# Altium integrated library Analog Devices Data Converters Analog-to-Digital Converters.IntLib: 2404 symbols (part 328 of 346)
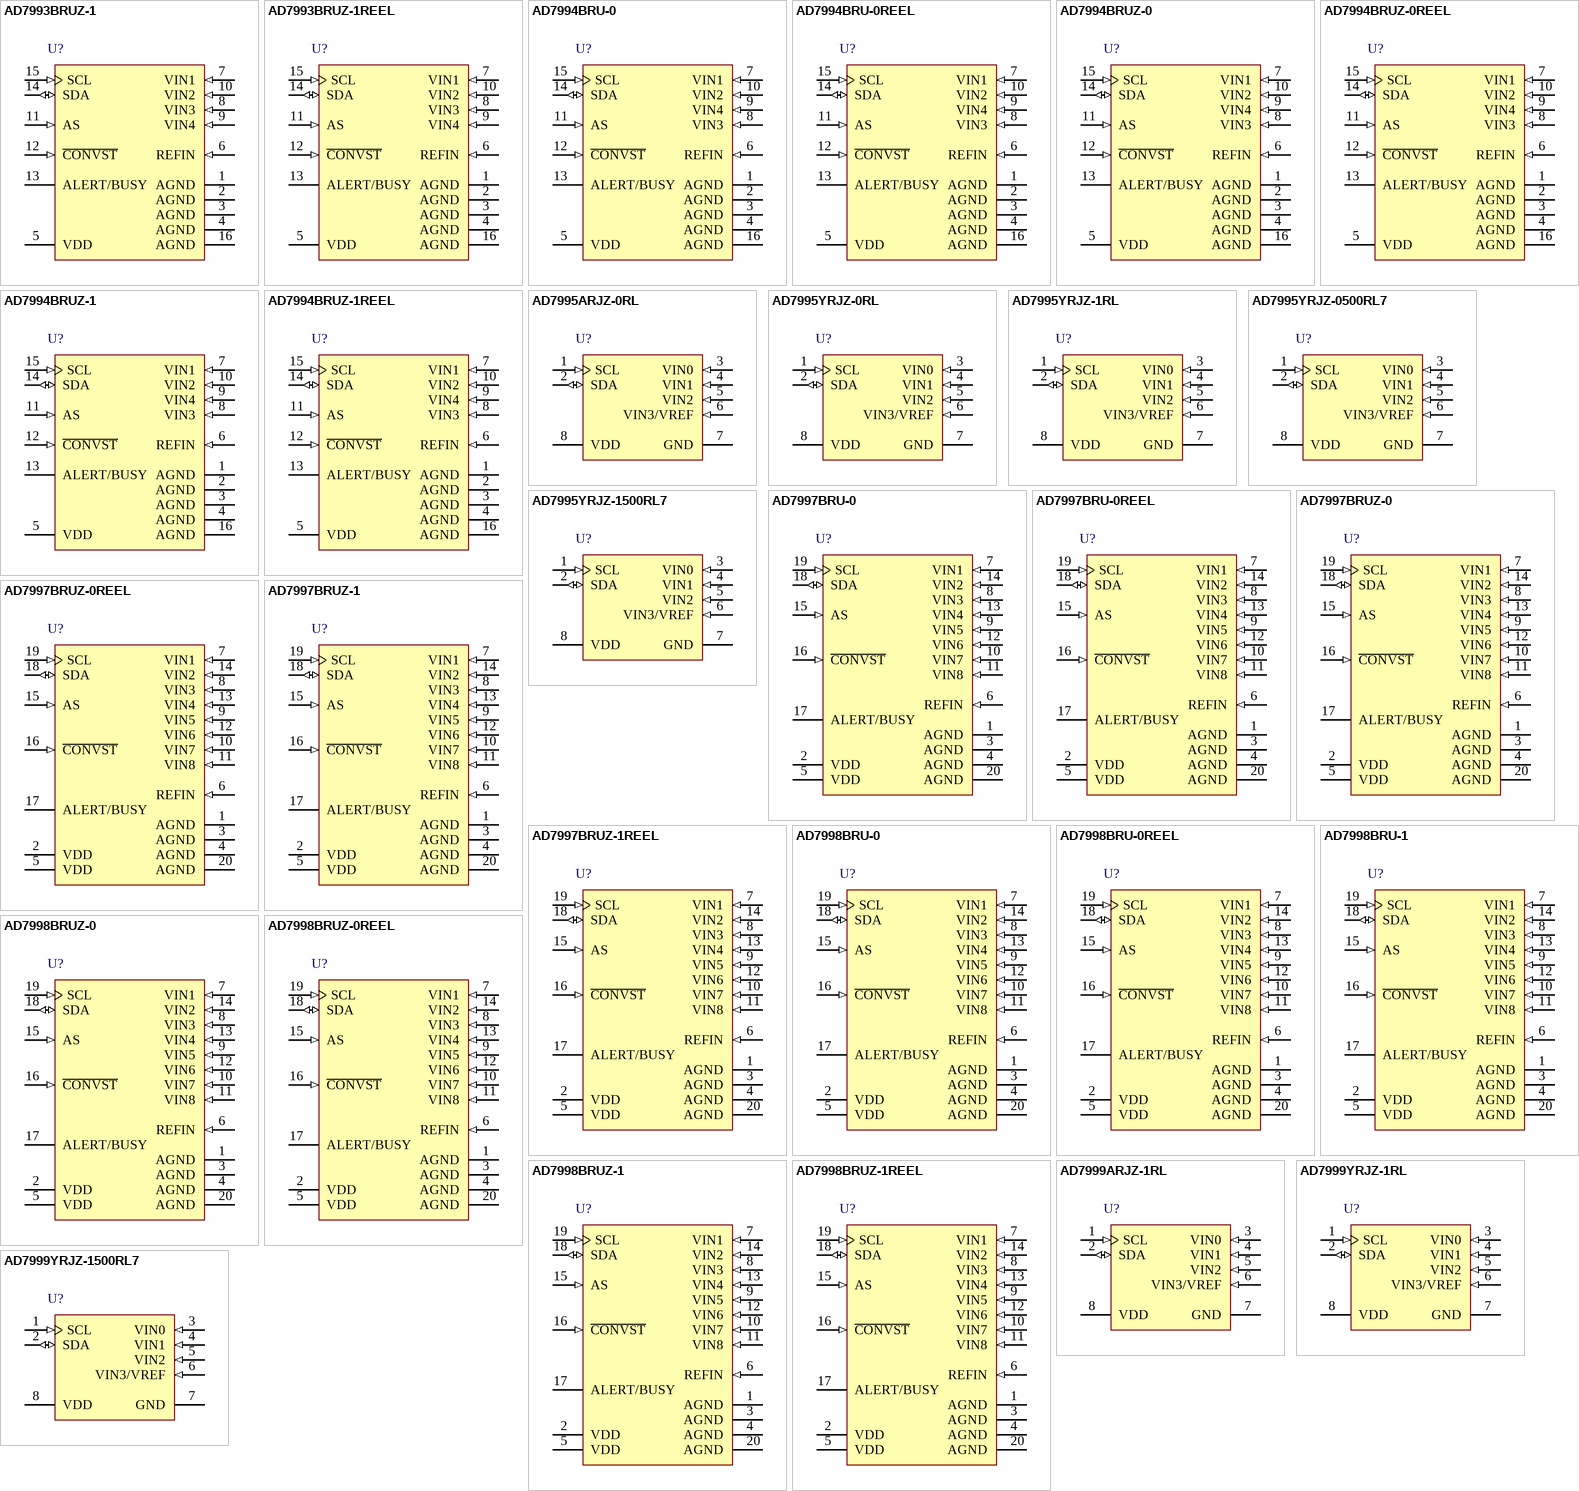
[diagram p430: symbols AD7993BRUZ-1 to AD7999YRJZ-1500RL7]

## AD7997BRU-0
designator U?
Octal 10-Bit Analog-to-Digital Converter with I2C / Serial 2-Wire, Serial Interface, 79KSPS, -40 to +85 degC, RU-20, Tube; Generic Part Number: AD7997; Manufacturer: Analog Devices; PartNumber: AD7997BRU-0; Resolution (Bits): 10; Channels: 8; Throughput Rate (SPS): 79K; Interface: I2C/Ser 2-Wire, Ser; DatasheetVersion: Rev.0; PackageVersion: 2000; PackageReference: RU-20; PackageDescription: 20-Lead Thin Shrink Small Outline Package [TSSOP]; Supplier 1: Digi-Key; Supplier Part Number 1: AD7997BRU-0-ND; Supplier 2: Newark; Supplier Part Number 2: 59K6113; Supplier 3: Mouser; Supplier Part Number 3: 584-AD7997BRU-0; RoHS: N; Packing: Tube; Mounting Technology: Surface Mount; Code_JEDEC: MO-153AC; ComponentLink1Description: Manufacturer URL; ComponentLink1URL: http://www.analog.com/en/index.html; ComponentLink2Description: Datasheet; ComponentLink2URL: http://www.analog.com/static/imported-files/data_sheets/AD7997_7998.pdf; ComponentLink3Description: Package Specification; ComponentLink3URL: http://www.analog.com/static/imported-files/packages/364515793657813558433715854054607941441RU20.pdf; ComponentLink4Description: Product URL; ComponentLink4URL: http://www.analog.com/en/analog-to-digital-converters/ad-converters/ad7997/products/product.html
footprint RU-20_N (TSOP, 20-Leads, Body 6.5x4.4mm, Pitch 0.65mm, IPC Medium Density)
footprint RU-20_L (TSOP, 20-Leads, Body 6.5x4.4mm, Pitch 0.65mm, IPC High Density)
footprint RU-20_M (TSOP, 20-Leads, Body 6.5x4.4mm, Pitch 0.65mm, IPC Low Density)
pins: 1 AGND (power) "Analog Ground. Ground reference point for all circuitry on the AD7997/AD7998. All analog input signals should be referred to this AGND voltage.", 2 VDD (power) "Power Supply Input. The VDD range for the AD7997/AD7998 is from 2.7 V to 5.5 V.", 3 AGND (power) "Analog Ground. Ground reference point for all circuitry on the AD7997/AD7998. All analog input signals should be referred to this AGND voltage.", 4 AGND (power) "Analog Ground. Ground reference point for all circuitry on the AD7997/AD7998. All analog input signals should be referred to this AGND voltage.", 5 VDD (power) "Power Supply Input. The VDD range for the AD7997/AD7998 is from 2.7 V to 5.5 V.", 6 REFIN (in) "Voltage Reference Input. The external reference for the AD7997/AD7998 should be applied to this input pin. The voltage range for the external reference is 1.2 V to VDD. A 0.1 uF and 1 uF capacitors should be placed between (See Datasheet)", 7 VIN1 (in) "Analog Input 1. Single-ended analog input channel. The input range is 0 V to REFIN.", 8 VIN3 (in) "Analog Input 3. Single-ended analog input channel. The input range is 0 V to REFIN.", 9 VIN5 (in) "Analog Input 5. Single-ended analog input channel. The input range is 0 V to REFIN.", 10 VIN7 (in) "Analog Input 7. Single-ended analog input channel. The input range is 0 V to REFIN.", 11 VIN8 (in) "Analog Input 8. Single-ended analog input channel. The input range is 0 V to REFIN.", 12 VIN6 (in) "Analog Input 6. Single-ended analog input channel. The input range is 0 V to REFIN.", 13 VIN4 (in) "Analog Input 4. Single-ended analog input channel. The input range is 0 V to REFIN.", 14 VIN2 (in) "Analog Input 2. Single-ended analog input channel. The input range is 0 V to REFIN.", 15 AS (in) "Logic Input. Address select input that selects one of three I2C addresses for the AD7997/AD7998, as shown in Table 6. The device address depends on the voltage applied to this pin.", 16 ~{CONVST} (in) "Logic Input Signal. Convert start signal. This is an edge-triggered logic input. The rising edge of this signal powers up the part. The power-up time for the part is 1 us. The falling edge of C\O\N\V\S\T\ places the (See Datasheet)", 17 ALERT/BUSY (oc) "Digital Output. Selectable as an ALERT or BUSY output function. When configured as an ALERT, this pin acts as an out-of-range indicator and, if enabled, becomes active when the conversion result violates the DATAHIGH or (See Datasheet)", 18 SDA (io) "Digital I/O. Serial bus bidirectional data. Open-drain output. External pull-up resistor required.", 19 SCL (in) "Digital Input. Serial bus clock. Open-drain input. External pull-up resistor required.", 20 AGND (power) "Analog Ground. Ground reference point for all circuitry on the AD7997/AD7998. All analog input signals should be referred to this AGND voltage."

## AD7997BRU-0REEL
designator U?
Octal 10-Bit Analog-to-Digital Converter with I2C / Serial 2-Wire, Serial Interface, 79KSPS, -40 to +85 degC, RU-20, Reel; Generic Part Number: AD7997; Manufacturer: Analog Devices; PartNumber: AD7997BRU-0REEL; Resolution (Bits): 10; Channels: 8; Throughput Rate (SPS): 79K; Interface: I2C/Ser 2-Wire, Ser; DatasheetVersion: Rev.0; PackageVersion: 2000; PackageReference: RU-20; PackageDescription: 20-Lead Thin Shrink Small Outline Package [TSSOP]; Supplier 1: Digi-Key; Supplier Part Number 1: AD7997BRU-0REEL-ND; Supplier 2: Mouser; Supplier Part Number 2: 584-AD7997BRU-0R; RoHS: N; Packing: Reel; Mounting Technology: Surface Mount; Code_JEDEC: MO-153AC; ComponentLink1Description: Manufacturer URL; ComponentLink1URL: http://www.analog.com/en/index.html; ComponentLink2Description: Datasheet; ComponentLink2URL: http://www.analog.com/static/imported-files/data_sheets/AD7997_7998.pdf; ComponentLink3Description: Package Specification; ComponentLink3URL: http://www.analog.com/static/imported-files/packages/364515793657813558433715854054607941441RU20.pdf; ComponentLink4Description: Product URL; ComponentLink4URL: http://www.analog.com/en/analog-to-digital-converters/ad-converters/ad7997/products/product.html
footprint RU-20_N (TSOP, 20-Leads, Body 6.5x4.4mm, Pitch 0.65mm, IPC Medium Density)
footprint RU-20_L (TSOP, 20-Leads, Body 6.5x4.4mm, Pitch 0.65mm, IPC High Density)
footprint RU-20_M (TSOP, 20-Leads, Body 6.5x4.4mm, Pitch 0.65mm, IPC Low Density)
pins: 1 AGND (power) "Analog Ground. Ground reference point for all circuitry on the AD7997/AD7998. All analog input signals should be referred to this AGND voltage.", 2 VDD (power) "Power Supply Input. The VDD range for the AD7997/AD7998 is from 2.7 V to 5.5 V.", 3 AGND (power) "Analog Ground. Ground reference point for all circuitry on the AD7997/AD7998. All analog input signals should be referred to this AGND voltage.", 4 AGND (power) "Analog Ground. Ground reference point for all circuitry on the AD7997/AD7998. All analog input signals should be referred to this AGND voltage.", 5 VDD (power) "Power Supply Input. The VDD range for the AD7997/AD7998 is from 2.7 V to 5.5 V.", 6 REFIN (in) "Voltage Reference Input. The external reference for the AD7997/AD7998 should be applied to this input pin. The voltage range for the external reference is 1.2 V to VDD. A 0.1 uF and 1 uF capacitors should be placed between (See Datasheet)", 7 VIN1 (in) "Analog Input 1. Single-ended analog input channel. The input range is 0 V to REFIN.", 8 VIN3 (in) "Analog Input 3. Single-ended analog input channel. The input range is 0 V to REFIN.", 9 VIN5 (in) "Analog Input 5. Single-ended analog input channel. The input range is 0 V to REFIN.", 10 VIN7 (in) "Analog Input 7. Single-ended analog input channel. The input range is 0 V to REFIN.", 11 VIN8 (in) "Analog Input 8. Single-ended analog input channel. The input range is 0 V to REFIN.", 12 VIN6 (in) "Analog Input 6. Single-ended analog input channel. The input range is 0 V to REFIN.", 13 VIN4 (in) "Analog Input 4. Single-ended analog input channel. The input range is 0 V to REFIN.", 14 VIN2 (in) "Analog Input 2. Single-ended analog input channel. The input range is 0 V to REFIN.", 15 AS (in) "Logic Input. Address select input that selects one of three I2C addresses for the AD7997/AD7998, as shown in Table 6. The device address depends on the voltage applied to this pin.", 16 ~{CONVST} (in) "Logic Input Signal. Convert start signal. This is an edge-triggered logic input. The rising edge of this signal powers up the part. The power-up time for the part is 1 us. The falling edge of C\O\N\V\S\T\ places the (See Datasheet)", 17 ALERT/BUSY (oc) "Digital Output. Selectable as an ALERT or BUSY output function. When configured as an ALERT, this pin acts as an out-of-range indicator and, if enabled, becomes active when the conversion result violates the DATAHIGH or (See Datasheet)", 18 SDA (io) "Digital I/O. Serial bus bidirectional data. Open-drain output. External pull-up resistor required.", 19 SCL (in) "Digital Input. Serial bus clock. Open-drain input. External pull-up resistor required.", 20 AGND (power) "Analog Ground. Ground reference point for all circuitry on the AD7997/AD7998. All analog input signals should be referred to this AGND voltage."

## AD7997BRUZ-0
designator U?
Octal 10-Bit Analog-to-Digital Converter with I2C / Serial 2-Wire, Serial Interface, 79KSPS, -40 to +85 degC, RU-20, Pb-Free, Tube; Generic Part Number: AD7997; Manufacturer: Analog Devices; PartNumber: AD7997BRUZ-0; Resolution (Bits): 10; Channels: 8; Throughput Rate (SPS): 79K; Interface: I2C/Ser 2-Wire, Ser; DatasheetVersion: Rev.0; PackageVersion: 2000; PackageReference: RU-20; PackageDescription: 20-Lead Thin Shrink Small Outline Package [TSSOP]; Supplier 1: Digi-Key; Supplier Part Number 1: AD7997BRUZ-0-ND; Supplier 2: Farnell; Supplier Part Number 2: 1078304; Supplier 3: Newark; Supplier Part Number 3: 20K7698; Supplier 4: Mouser; Supplier Part Number 4: 584-AD7997BRUZ-0; RoHS: Y; Packing: Tube; Mounting Technology: Surface Mount; Code_JEDEC: MO-153AC; ComponentLink1Description: Manufacturer URL; ComponentLink1URL: http://www.analog.com/en/index.html; ComponentLink2Description: Datasheet; ComponentLink2URL: http://www.analog.com/static/imported-files/data_sheets/AD7997_7998.pdf; ComponentLink3Description: Package Specification; ComponentLink3URL: http://www.analog.com/static/imported-files/packages/364515793657813558433715854054607941441RU20.pdf; ComponentLink4Description: Product URL; ComponentLink4URL: http://www.analog.com/en/analog-to-digital-converters/ad-converters/ad7997/products/product.html
footprint RU-20_N (TSOP, 20-Leads, Body 6.5x4.4mm, Pitch 0.65mm, IPC Medium Density)
footprint RU-20_L (TSOP, 20-Leads, Body 6.5x4.4mm, Pitch 0.65mm, IPC High Density)
footprint RU-20_M (TSOP, 20-Leads, Body 6.5x4.4mm, Pitch 0.65mm, IPC Low Density)
pins: 1 AGND (power) "Analog Ground. Ground reference point for all circuitry on the AD7997/AD7998. All analog input signals should be referred to this AGND voltage.", 2 VDD (power) "Power Supply Input. The VDD range for the AD7997/AD7998 is from 2.7 V to 5.5 V.", 3 AGND (power) "Analog Ground. Ground reference point for all circuitry on the AD7997/AD7998. All analog input signals should be referred to this AGND voltage.", 4 AGND (power) "Analog Ground. Ground reference point for all circuitry on the AD7997/AD7998. All analog input signals should be referred to this AGND voltage.", 5 VDD (power) "Power Supply Input. The VDD range for the AD7997/AD7998 is from 2.7 V to 5.5 V.", 6 REFIN (in) "Voltage Reference Input. The external reference for the AD7997/AD7998 should be applied to this input pin. The voltage range for the external reference is 1.2 V to VDD. A 0.1 uF and 1 uF capacitors should be placed between (See Datasheet)", 7 VIN1 (in) "Analog Input 1. Single-ended analog input channel. The input range is 0 V to REFIN.", 8 VIN3 (in) "Analog Input 3. Single-ended analog input channel. The input range is 0 V to REFIN.", 9 VIN5 (in) "Analog Input 5. Single-ended analog input channel. The input range is 0 V to REFIN.", 10 VIN7 (in) "Analog Input 7. Single-ended analog input channel. The input range is 0 V to REFIN.", 11 VIN8 (in) "Analog Input 8. Single-ended analog input channel. The input range is 0 V to REFIN.", 12 VIN6 (in) "Analog Input 6. Single-ended analog input channel. The input range is 0 V to REFIN.", 13 VIN4 (in) "Analog Input 4. Single-ended analog input channel. The input range is 0 V to REFIN.", 14 VIN2 (in) "Analog Input 2. Single-ended analog input channel. The input range is 0 V to REFIN.", 15 AS (in) "Logic Input. Address select input that selects one of three I2C addresses for the AD7997/AD7998, as shown in Table 6. The device address depends on the voltage applied to this pin.", 16 ~{CONVST} (in) "Logic Input Signal. Convert start signal. This is an edge-triggered logic input. The rising edge of this signal powers up the part. The power-up time for the part is 1 us. The falling edge of C\O\N\V\S\T\ places the (See Datasheet)", 17 ALERT/BUSY (oc) "Digital Output. Selectable as an ALERT or BUSY output function. When configured as an ALERT, this pin acts as an out-of-range indicator and, if enabled, becomes active when the conversion result violates the DATAHIGH or (See Datasheet)", 18 SDA (io) "Digital I/O. Serial bus bidirectional data. Open-drain output. External pull-up resistor required.", 19 SCL (in) "Digital Input. Serial bus clock. Open-drain input. External pull-up resistor required.", 20 AGND (power) "Analog Ground. Ground reference point for all circuitry on the AD7997/AD7998. All analog input signals should be referred to this AGND voltage."

## AD7997BRUZ-0REEL
designator U?
Octal 10-Bit Analog-to-Digital Converter with I2C / Serial 2-Wire, Serial Interface, 79KSPS, -40 to +85 degC, RU-20, Pb-Free, Reel; Generic Part Number: AD7997; Manufacturer: Analog Devices; PartNumber: AD7997BRUZ-0REEL; Resolution (Bits): 10; Channels: 8; Throughput Rate (SPS): 79K; Interface: I2C/Ser 2-Wire, Ser; DatasheetVersion: Rev.0; PackageVersion: 2000; PackageReference: RU-20; PackageDescription: 20-Lead Thin Shrink Small Outline Package [TSSOP]; Supplier 1: Digi-Key; Supplier Part Number 1: AD7997BRUZ-0REELTR-ND; Supplier 2: Digi-Key; Supplier Part Number 2: AD7997BRUZ-0REELCT-ND; Supplier 3: Digi-Key; Supplier Part Number 3: AD7997BRUZ-0REELDKR-ND; Supplier 4: Newark; Supplier Part Number 4: 59K6117; Supplier 5: Mouser; Supplier Part Number 5: 584-AD7997BRUZ-0R; RoHS: Y; Packing: Reel; Mounting Technology: Surface Mount; Code_JEDEC: MO-153AC; ComponentLink1Description: Manufacturer URL; ComponentLink1URL: http://www.analog.com/en/index.html; ComponentLink2Description: Datasheet; ComponentLink2URL: http://www.analog.com/static/imported-files/data_sheets/AD7997_7998.pdf; ComponentLink3Description: Package Specification; ComponentLink3URL: http://www.analog.com/static/imported-files/packages/364515793657813558433715854054607941441RU20.pdf; ComponentLink4Description: Product URL; ComponentLink4URL: http://www.analog.com/en/analog-to-digital-converters/ad-converters/ad7997/products/product.html
footprint RU-20_N (TSOP, 20-Leads, Body 6.5x4.4mm, Pitch 0.65mm, IPC Medium Density)
footprint RU-20_L (TSOP, 20-Leads, Body 6.5x4.4mm, Pitch 0.65mm, IPC High Density)
footprint RU-20_M (TSOP, 20-Leads, Body 6.5x4.4mm, Pitch 0.65mm, IPC Low Density)
pins: 1 AGND (power) "Analog Ground. Ground reference point for all circuitry on the AD7997/AD7998. All analog input signals should be referred to this AGND voltage.", 2 VDD (power) "Power Supply Input. The VDD range for the AD7997/AD7998 is from 2.7 V to 5.5 V.", 3 AGND (power) "Analog Ground. Ground reference point for all circuitry on the AD7997/AD7998. All analog input signals should be referred to this AGND voltage.", 4 AGND (power) "Analog Ground. Ground reference point for all circuitry on the AD7997/AD7998. All analog input signals should be referred to this AGND voltage.", 5 VDD (power) "Power Supply Input. The VDD range for the AD7997/AD7998 is from 2.7 V to 5.5 V.", 6 REFIN (in) "Voltage Reference Input. The external reference for the AD7997/AD7998 should be applied to this input pin. The voltage range for the external reference is 1.2 V to VDD. A 0.1 uF and 1 uF capacitors should be placed between (See Datasheet)", 7 VIN1 (in) "Analog Input 1. Single-ended analog input channel. The input range is 0 V to REFIN.", 8 VIN3 (in) "Analog Input 3. Single-ended analog input channel. The input range is 0 V to REFIN.", 9 VIN5 (in) "Analog Input 5. Single-ended analog input channel. The input range is 0 V to REFIN.", 10 VIN7 (in) "Analog Input 7. Single-ended analog input channel. The input range is 0 V to REFIN.", 11 VIN8 (in) "Analog Input 8. Single-ended analog input channel. The input range is 0 V to REFIN.", 12 VIN6 (in) "Analog Input 6. Single-ended analog input channel. The input range is 0 V to REFIN.", 13 VIN4 (in) "Analog Input 4. Single-ended analog input channel. The input range is 0 V to REFIN.", 14 VIN2 (in) "Analog Input 2. Single-ended analog input channel. The input range is 0 V to REFIN.", 15 AS (in) "Logic Input. Address select input that selects one of three I2C addresses for the AD7997/AD7998, as shown in Table 6. The device address depends on the voltage applied to this pin.", 16 ~{CONVST} (in) "Logic Input Signal. Convert start signal. This is an edge-triggered logic input. The rising edge of this signal powers up the part. The power-up time for the part is 1 us. The falling edge of C\O\N\V\S\T\ places the (See Datasheet)", 17 ALERT/BUSY (oc) "Digital Output. Selectable as an ALERT or BUSY output function. When configured as an ALERT, this pin acts as an out-of-range indicator and, if enabled, becomes active when the conversion result violates the DATAHIGH or (See Datasheet)", 18 SDA (io) "Digital I/O. Serial bus bidirectional data. Open-drain output. External pull-up resistor required.", 19 SCL (in) "Digital Input. Serial bus clock. Open-drain input. External pull-up resistor required.", 20 AGND (power) "Analog Ground. Ground reference point for all circuitry on the AD7997/AD7998. All analog input signals should be referred to this AGND voltage."